# Altium integrated library TI Power Management Power Modules.IntLib: 831 symbols (part 34 of 44)
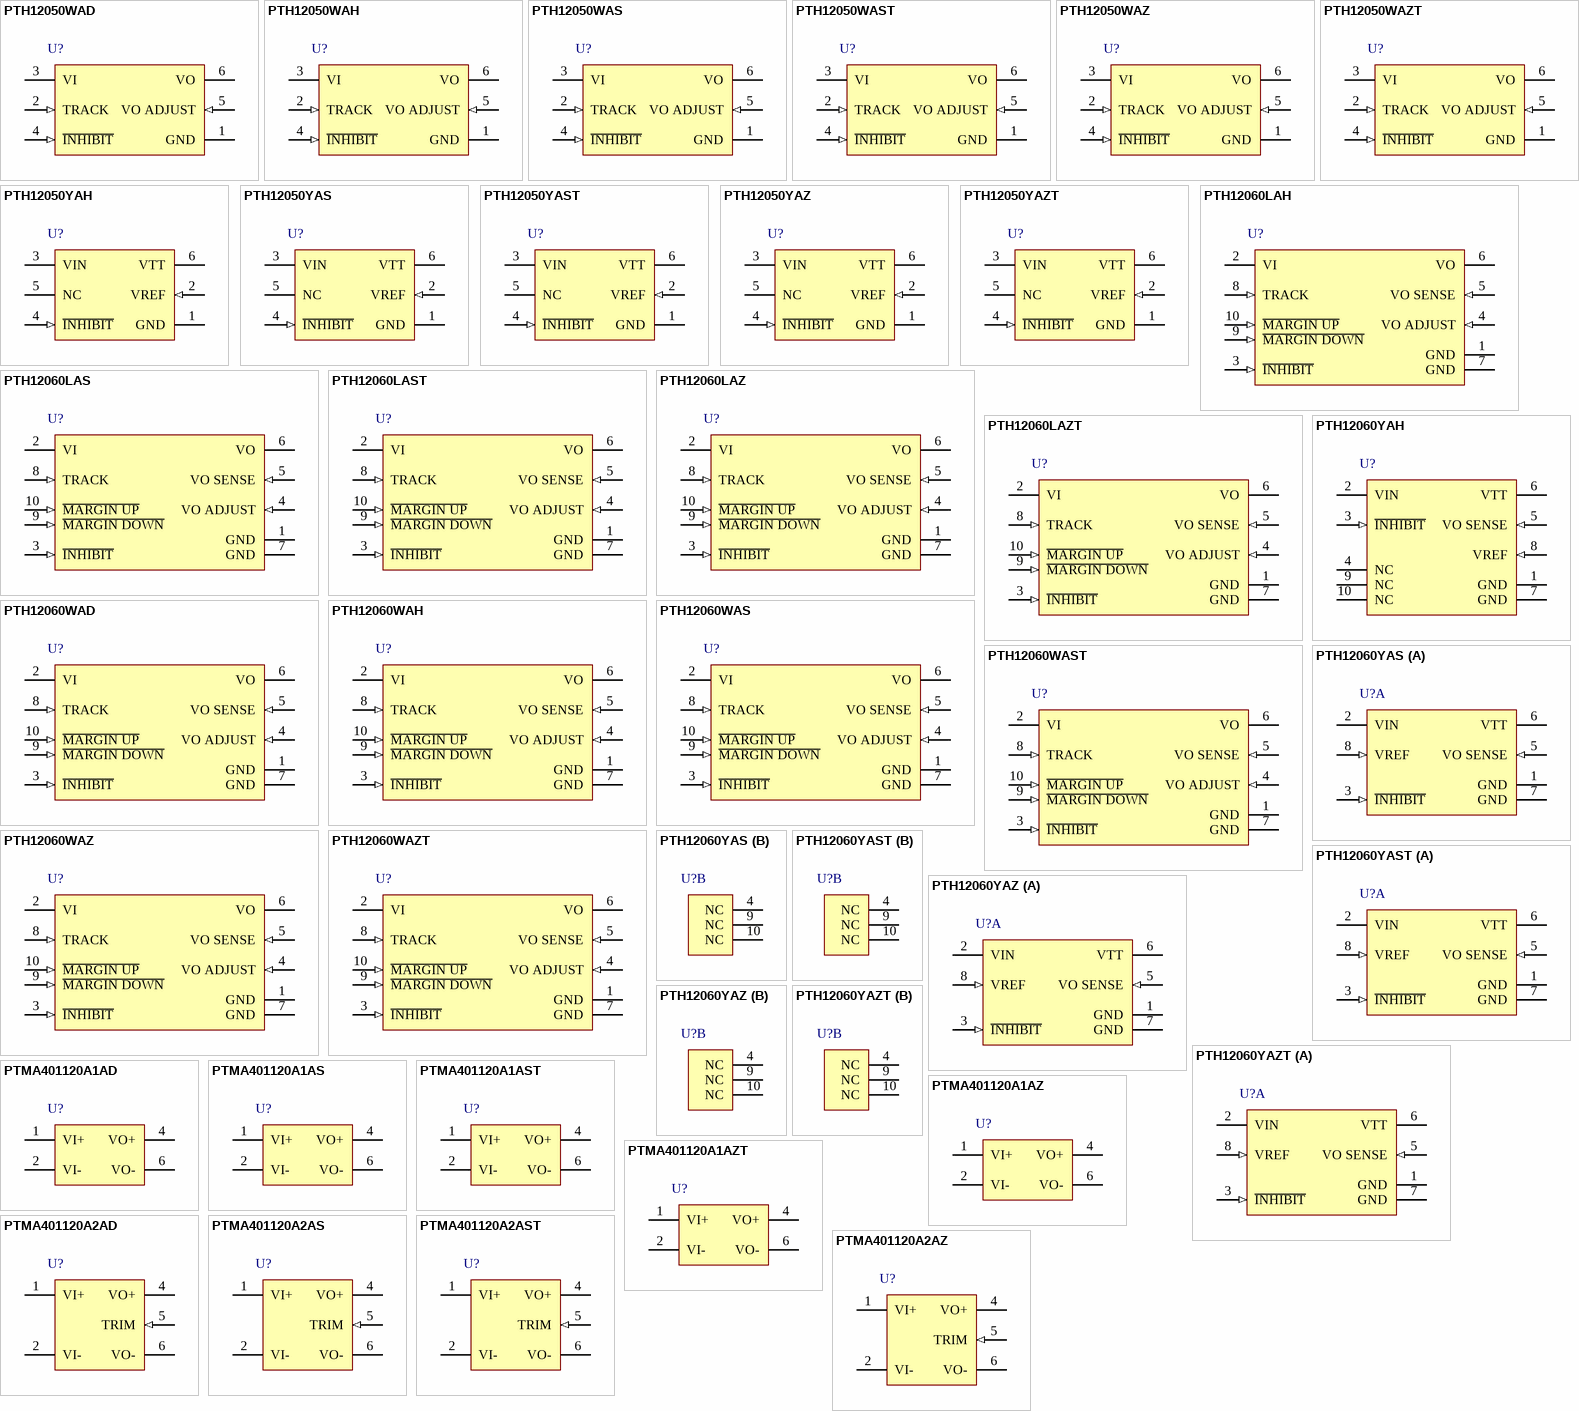
[diagram p56: symbols PTH12050WAD to PTMA401120A2AZ]

## PTH12060WAZT
designator U?
1.2 to 5.5 V, 10 A, 12 V Input Non-Isolated Wide Adjust Module, -40 to 85 degC, 10-pin Module (EUY10), Pb-Free (RoHS); Manufacturer: Texas Instruments; PartNumber: PTH12060WAZT; Iout(Max)(A): 10; Regulated Outputs(#): 1; SubFamily: Non-Isolated POL; Vin(Max)(V): 13.2; Vin(Min)(V): 10.8; VO Adjustable: TRUE; Vout(Max)(V): 5.5; Vout(Min)(V): 1.2; DatasheetVersion: SLTS217H; PackageVersion: 4205249-3/B; PackageReference: EUY10; PackageDescription: 10-Pin Plastic Special Shape, Body 15.75 x 25.27 mm; Supplier 1: Digi-Key; Supplier Part Number 1: PTH12060WAZT-ND; Supplier 2: Newark; Supplier Part Number 2: 37K0759; Supplier 3: Mouser; Supplier Part Number 3: 595-PTH12060WAZT; Eco-Plan: Pb-Free (RoHS); Mounting Technology: Surface Mount; ComponentLink1Description: Manufacturer URL; ComponentLink1URL: http://www.ti.com/; ComponentLink2Description: Datasheet; ComponentLink2URL: http://www.ti.com/general/docs/lit/getliterature.tsp?genericPartNumber=PTH12060W&fileType=pdf; ComponentLink3Description: Package Specification; ComponentLink3URL: http://www.ti.com/lit/ml/mpds145a/mpds145a.pdf; ComponentLink4Description: URL Link1; ComponentLink4URL: Samples URL:http://www.ti.com/product/pth12060w#samples
footprint TI-EUY10_V (Module, 10-Leads, Body 25.27x15.75mm)
pins: 1 GND (power) "This is the common ground connection for the Vin and Vout power connections. It is also the 0 VDC reference for the control inputs.", 2 VI (power) "The positive input voltage power node to the module, which is referenced to common GND.", 3 ~{INHIBIT} (in) "The Inhibit pin is an open-collector/drain negative logic input that is referenced to GND. Applying a lowlevel ground signal to this input disables the module’s output and turns off the output voltage. When the Inhibit (See Datasheet)", 4 VO ADJUST (in) "A 1% resistor must be connected directly between this pin and GND (pin 7) to set the output voltage of the module higher than its lowest value. The temperature stability of the resistor should be 100 ppm/degreesC (or better).(See Datasheet)", 5 VO SENSE (in) "The sense input allows the regulation circuit to compensate for voltage drop between the module and the load. For optimal voltage accuracy Vo Sense should be connected to Vout. It can also be left disconnected.", 6 VO (power) "The regulated positive power output with respect to the GND node.", 7 GND (power) "This is the common ground connection for the Vin and Vout power connections. It is also the 0 VDC reference for the control inputs.", 8 TRACK (in) "This is an analog control input that enables the output voltage to follow an external voltage. This pin becomes active typically 20 ms after the input voltage has been applied, and allows direct control of the output voltage (See Datasheet)", 9 ~{MARGIN DOWN} (in) "When this input is asserted to GND, the output voltage is decreased by 5% from the nominal. The input requires an open-collector (open-drain) interface. It is not TTL compatible. A lower percent change can be accomodated (See Datasheet)", 10 ~{MARGIN UP} (in) "When this input is asserted to GND, the output voltage is increased by 5%. The input requires an open-collector (open-drain) interface. It is not TTL compatible. The percent change can be reduced with a series resistor. For (See Datasheet)"

## PTH12060YAH
designator U?
10 A, 12 V Input Bus Termination Power Module for DDR / QDR Memory, -40 to 85 degC, 10-pin Module (EUW10), Pb-Free (RoHS); Manufacturer: Texas Instruments; PartNumber: PTH12060YAH; Iout(Max)(A): 10; Regulated Outputs(#): 1; SubFamily: Non-Isolated POL; Vin(Max)(V): 13.2; Vin(Min)(V): 10.8; Vout(Max)(V): 1.8; Vout(Min)(V): 0.55; DatasheetVersion: SLTS222A; PackageVersion: 4205248-3/B; PackageReference: EUW10; PackageDescription: 10-Pin Plastic Special Shape, Body 15.75 x 25.27 mm; Supplier 1: Digi-Key; Supplier Part Number 1: 296-20489-ND; Supplier 2: Newark; Supplier Part Number 2: 01J0663; Supplier 3: Mouser; Supplier Part Number 3: 595-PTH12060YAH; Eco-Plan: Pb-Free (RoHS); Mounting Technology: Through Hole; ComponentLink1Description: Manufacturer URL; ComponentLink1URL: http://www.ti.com/; ComponentLink2Description: Datasheet; ComponentLink2URL: http://www.ti.com/general/docs/lit/getliterature.tsp?genericPartNumber=PTH12060Y&fileType=pdf; ComponentLink3Description: Package Specification; ComponentLink3URL: http://www.ti.com/litv/pdf/mpds144a; ComponentLink4Description: URL Link1; ComponentLink4URL: Samples URL:http://www.ti.com/product/pth12060y#samples
footprint TI-EUW10_V (Module, 10-Leads, Body 25.27x15.75mm)
pins: 1 GND (power) "This is the common ground connection for the VIN and VTT power connections. It is also the 0-VDC reference for the control inputs.", 2 VIN (power) "The positive input voltage power node to the module, which is referenced to common GND.", 3 ~{INHIBIT} (in) "The Inhibit pin is an open-collector/drain negative logic input that is referenced to GND. Applying a low-level ground signal to this input turns off the output voltage, VTT. Although the module is inhibited, a voltage, VDDQ (See Datasheet)", 4 NC "No connection", 5 VO SENSE (in) "The sense input allows the regulation circuit to compensate for voltage drop between the module and the load. For optimal voltage accuracy VO SENSE should be connected to VTT.", 6 VTT (power) "This is the regulated power output from the module with respect to the GND node, and the tracking termination supply for the applicantion data and address buses.It is precisely regulated to the voltage applied to the (See Datasheet)", 7 GND (power) "This is the common ground connection for the VIN and VTT power connections. It is also the 0-VDC reference for the control inputs.", 8 VREF (in) "The module senses the voltage at this input to regulate the output voltage, VTT. The voltage at VREF is also the reference voltage for the system bus receiver comparators. It is normally set to precisely half the bus driver (See Datasheet)", 9 NC "No connection", 10 NC "No connection"

## PTH12060YAS
designator U?
10 A, 12 V Input Bus Termination Power Module for DDR / QDR Memory, -40 to 85 degC, 10-pin Module (EUY10); Manufacturer: Texas Instruments; PartNumber: PTH12060YAS; Eco-Plan: TBD; Iout(Max)(A): 10; Regulated Outputs(#): 1; SubFamily: Non-Isolated POL; Vin(Max)(V): 13.2; Vin(Min)(V): 10.8; Vout(Max)(V): 1.8; Vout(Min)(V): 0.55; DatasheetVersion: SLTS222A; PackageVersion: 4205249-3/B; PackageReference: EUY10; PackageDescription: 10-Pin Plastic Special Shape, Body 15.75 x 25.27 mm; Supplier 1: Digi-Key; Supplier Part Number 1: 296-20490-ND; Supplier 2: Newark; Supplier Part Number 2: 01J0664; Supplier 3: Mouser; Supplier Part Number 3: 595-PTH12060YAS; Mounting Technology: Surface Mount; ComponentLink1Description: Manufacturer URL; ComponentLink1URL: http://www.ti.com/; ComponentLink2Description: Datasheet; ComponentLink2URL: http://www.ti.com/general/docs/lit/getliterature.tsp?genericPartNumber=PTH12060Y&fileType=pdf; ComponentLink3Description: Package Specification; ComponentLink3URL: http://www.ti.com/lit/ml/mpds145a/mpds145a.pdf; ComponentLink4Description: URL Link1; ComponentLink4URL: Samples URL:http://www.ti.com/product/pth12060y#samples
footprint TI-EUY10_V (Module, 10-Leads, Body 25.27x15.75mm)
part A pins: 1 GND (power) "This is the common ground connection for the VIN and VTT power connections. It is also the 0-VDC reference for the control inputs.", 2 VIN (power) "The positive input voltage power node to the module, which is referenced to common GND.", 3 ~{INHIBIT} (in) "The Inhibit pin is an open-collector/drain negative logic input that is referenced to GND. Applying a low-level ground signal to this input turns off the output voltage, VTT. Although the module is inhibited, a voltage, VDDQ (See Datasheet)", 5 VO SENSE (in) "The sense input allows the regulation circuit to compensate for voltage drop between the module and the load. For optimal voltage accuracy Vo Sense should be connected to VTT.", 6 VTT (power) "This is the regulated power output from the module with respect to the GND node, and the tracking termination supply for the application data and address buses. It is precisely regulated to the voltage applied to the (See Datasheet)", 7 GND (power) "This is the common ground connection for the VIN and VTT power connections. It is also the 0-VDC reference for the control inputs.", 8 VREF (in) "The module senses the voltage at this input to regulate the output voltage, VTT. The voltage at VREF is also the reference voltage for the system bus receiver comparators. It is normally set to precisely half the bus driver (See Datasheet)"
part B pins: 4 NC "No connect", 9 NC "No connect", 10 NC "No connect"

## PTH12060YAST
designator U?
10 A, 12 V Input Bus Termination Power Module for DDR / QDR Memory, -40 to 85 degC, 10-pin Module (EUY10); Manufacturer: Texas Instruments; PartNumber: PTH12060YAST; Eco-Plan: TBD; Iout(Max)(A): 10; Regulated Outputs(#): 1; SubFamily: Non-Isolated POL; Vin(Max)(V): 13.2; Vin(Min)(V): 10.8; Vout(Max)(V): 1.8; Vout(Min)(V): 0.55; DatasheetVersion: SLTS222A; PackageVersion: 4205249-3/B; PackageReference: EUY10; PackageDescription: 10-Pin Plastic Special Shape, Body 15.75 x 25.27 mm; Supplier 1: Digi-Key; Supplier Part Number 1: PTH12060YAST-ND; Supplier 2: Newark; Supplier Part Number 2: 01J0665; Supplier 3: Mouser; Supplier Part Number 3: 595-PTH12060YAST; Mounting Technology: Surface Mount; ComponentLink1Description: Manufacturer URL; ComponentLink1URL: http://www.ti.com/; ComponentLink2Description: Datasheet; ComponentLink2URL: http://www.ti.com/general/docs/lit/getliterature.tsp?genericPartNumber=PTH12060Y&fileType=pdf; ComponentLink3Description: Package Specification; ComponentLink3URL: http://www.ti.com/lit/ml/mpds145a/mpds145a.pdf; ComponentLink4Description: URL Link1; ComponentLink4URL: Samples URL:http://www.ti.com/product/pth12060y#samples
footprint TI-EUY10_V (Module, 10-Leads, Body 25.27x15.75mm)
part A pins: 1 GND (power) "This is the common ground connection for the VIN and VTT power connections. It is also the 0-VDC reference for the control inputs.", 2 VIN (power) "The positive input voltage power node to the module, which is referenced to common GND.", 3 ~{INHIBIT} (in) "The Inhibit pin is an open-collector/drain negative logic input that is referenced to GND. Applying a low-level ground signal to this input turns off the output voltage, VTT. Although the module is inhibited, a voltage, VDDQ (See Datasheet)", 5 VO SENSE (in) "The sense input allows the regulation circuit to compensate for voltage drop between the module and the load. For optimal voltage accuracy Vo Sense should be connected to VTT.", 6 VTT (power) "This is the regulated power output from the module with respect to the GND node, and the tracking termination supply for the application data and address buses. It is precisely regulated to the voltage applied to the (See Datasheet)", 7 GND (power) "This is the common ground connection for the VIN and VTT power connections. It is also the 0-VDC reference for the control inputs.", 8 VREF (in) "The module senses the voltage at this input to regulate the output voltage, VTT. The voltage at VREF is also the reference voltage for the system bus receiver comparators. It is normally set to precisely half the bus driver (See Datasheet)"
part B pins: 4 NC "No connect", 9 NC "No connect", 10 NC "No connect"

## PTH12060YAZ
designator U?
10 A, 12 V Input Bus Termination Power Module for DDR / QDR Memory, -40 to 85 degC, 10-pin Module (EUY10), Pb-Free (RoHS); Manufacturer: Texas Instruments; PartNumber: PTH12060YAZ; Iout(Max)(A): 10; Regulated Outputs(#): 1; SubFamily: Non-Isolated POL; Vin(Max)(V): 13.2; Vin(Min)(V): 10.8; Vout(Max)(V): 1.8; Vout(Min)(V): 0.55; DatasheetVersion: SLTS222A; PackageVersion: 4205249-3/B; PackageReference: EUY10; PackageDescription: 10-Pin Plastic Special Shape, Body 15.75 x 25.27 mm; Supplier 1: Digi-Key; Supplier Part Number 1: 296-20491-ND; Supplier 2: Newark; Supplier Part Number 2: 37K0760; Supplier 3: Mouser; Supplier Part Number 3: 595-PTH12060YAZ; Eco-Plan: Pb-Free (RoHS); Mounting Technology: Surface Mount; ComponentLink1Description: Manufacturer URL; ComponentLink1URL: http://www.ti.com/; ComponentLink2Description: Datasheet; ComponentLink2URL: http://www.ti.com/general/docs/lit/getliterature.tsp?genericPartNumber=PTH12060Y&fileType=pdf; ComponentLink3Description: Package Specification; ComponentLink3URL: http://www.ti.com/lit/ml/mpds145a/mpds145a.pdf; ComponentLink4Description: URL Link1; ComponentLink4URL: Samples URL:http://www.ti.com/product/pth12060y#samples
footprint TI-EUY10_V (Module, 10-Leads, Body 25.27x15.75mm)
part A pins: 1 GND (power) "This is the common ground connection for the VIN and VTT power connections. It is also the 0-VDC reference for the control inputs.", 2 VIN (power) "The positive input voltage power node to the module, which is referenced to common GND.", 3 ~{INHIBIT} (in) "The Inhibit pin is an open-collector/drain negative logic input that is referenced to GND. Applying a low-level ground signal to this input turns off the output voltage, VTT. Although the module is inhibited, a voltage, VDDQ (See Datasheet)", 5 VO SENSE (in) "The sense input allows the regulation circuit to compensate for voltage drop between the module and the load. For optimal voltage accuracy Vo Sense should be connected to VTT.", 6 VTT (power) "This is the regulated power output from the module with respect to the GND node, and the tracking termination supply for the application data and address buses. It is precisely regulated to the voltage applied to the (See Datasheet)", 7 GND (power) "This is the common ground connection for the VIN and VTT power connections. It is also the 0-VDC reference for the control inputs.", 8 VREF (in) "The module senses the voltage at this input to regulate the output voltage, VTT. The voltage at VREF is also the reference voltage for the system bus receiver comparators. It is normally set to precisely half the bus driver (See Datasheet)"
part B pins: 4 NC "No connect", 9 NC "No connect", 10 NC "No connect"

## PTH12060YAZT
designator U?
10 A, 12 V Input Bus Termination Power Module for DDR / QDR Memory, -40 to 85 degC, 10-pin Module (EUY10), Pb-Free (RoHS); Manufacturer: Texas Instruments; PartNumber: PTH12060YAZT; Iout(Max)(A): 10; Regulated Outputs(#): 1; SubFamily: Non-Isolated POL; Vin(Max)(V): 13.2; Vin(Min)(V): 10.8; Vout(Max)(V): 1.8; Vout(Min)(V): 0.55; DatasheetVersion: SLTS222A; PackageVersion: 4205249-3/B; PackageReference: EUY10; PackageDescription: 10-Pin Plastic Special Shape, Body 15.75 x 25.27 mm; Supplier 1: Digi-Key; Supplier Part Number 1: PTH12060YAZT-ND; Supplier 2: Newark; Supplier Part Number 2: 37K0761; Supplier 3: Mouser; Supplier Part Number 3: 595-PTH12060YAZT; Eco-Plan: Pb-Free (RoHS); Mounting Technology: Surface Mount; ComponentLink1Description: Manufacturer URL; ComponentLink1URL: http://www.ti.com/; ComponentLink2Description: Datasheet; ComponentLink2URL: http://www.ti.com/general/docs/lit/getliterature.tsp?genericPartNumber=PTH12060Y&fileType=pdf; ComponentLink3Description: Package Specification; ComponentLink3URL: http://www.ti.com/lit/ml/mpds145a/mpds145a.pdf; ComponentLink4Description: URL Link1; ComponentLink4URL: Samples URL:http://www.ti.com/product/pth12060y#samples
footprint TI-EUY10_V (Module, 10-Leads, Body 25.27x15.75mm)
part A pins: 1 GND (power) "This is the common ground connection for the VIN and VTT power connections. It is also the 0-VDC reference for the control inputs.", 2 VIN (power) "The positive input voltage power node to the module, which is referenced to common GND.", 3 ~{INHIBIT} (in) "The Inhibit pin is an open-collector/drain negative logic input that is referenced to GND. Applying a low-level ground signal to this input turns off the output voltage, VTT. Although the module is inhibited, a voltage, VDDQ (See Datasheet)", 5 VO SENSE (in) "The sense input allows the regulation circuit to compensate for voltage drop between the module and the load. For optimal voltage accuracy Vo Sense should be connected to VTT.", 6 VTT (power) "This is the regulated power output from the module with respect to the GND node, and the tracking termination supply for the application data and address buses. It is precisely regulated to the voltage applied to the (See Datasheet)", 7 GND (power) "This is the common ground connection for the VIN and VTT power connections. It is also the 0-VDC reference for the control inputs.", 8 VREF (in) "The module senses the voltage at this input to regulate the output voltage, VTT. The voltage at VREF is also the reference voltage for the system bus receiver comparators. It is normally set to precisely half the bus driver (See Datasheet)"
part B pins: 4 NC "No connect", 9 NC "No connect", 10 NC "No connect"

## PTMA401120A1AD
designator U?
10 W, 36 to 75 V Input, 1500 V Isolation, DC-DC Converter, -40 to 85 degC, 4-pin Module (EEP4), Pb-Free (RoHS); Manufacturer: Texas Instruments; PartNumber: PTMA401120A1AD; Iout(Max)(A): 1; SubFamily: 48V Standard Pinout Brick and 36V to 75V Input; Vin(Max)(V): 75; Vin(Min)(V): 36; Vout(Max)(V): 13.2; Vout(Min)(V): 10.8; DatasheetVersion: SLTS259B; PackageVersion: 4207367-2/C; PackageReference: EEP4; PackageDescription: 4-Pin Plastic Special Shape, Body 24.38 x 27.94 mm; Supplier 1: Digi-Key; Supplier Part Number 1: 296-21462-ND; Supplier 2: Newark; Supplier Part Number 2: 99K4124; Supplier 3: Mouser; Supplier Part Number 3: 595-PTMA401120A1AD; Eco-Plan: Pb-Free (RoHS); Regulated Outputs(#): 1; Mounting Technology: Through Hole; ComponentLink1Description: Manufacturer URL; ComponentLink1URL: http://www.ti.com/; ComponentLink2Description: Datasheet; ComponentLink2URL: http://www.ti.com/general/docs/lit/getliterature.tsp?genericPartNumber=PTMA401120&fileType=pdf; ComponentLink3Description: Package Specification; ComponentLink3URL: http://www.ti.com/litv/pdf/mpds248; ComponentLink4Description: URL Link1; ComponentLink4URL: Samples URL:http://www.ti.com/product/ptma401120#samples
footprint TI-EEP4_V (Module, 4-Leads, Body 27.94x24.38mm)
pins: 1 VI+ (power) "The positive input for the module with respect to VI-. When powering the module from a negative input voltage, this input is connected to the input source ground.", 2 VI- (power) "The negative input supply for the module, and the 0-V reference for the Enable/Sync inputs. When powering the module from a positive source, this input is connected to the input source return.", 4 VO+ (power) "This is the positive power output with respect to VO-. It is dc isolated from the input power pins.", 6 VO- (power) "This is the output power return for the VO+ bus. This terminal should be connected to the common of the load circuit."

## PTMA401120A1AS
designator U?
10 W, 36 to 75 V Input, 1500 V Isolation, DC-DC Converter, -40 to 85 degC, 4-pin Module (EET4); Manufacturer: Texas Instruments; PartNumber: PTMA401120A1AS; Eco-Plan: TBD; Iout(Max)(A): 1; SubFamily: 48V Standard Pinout Brick and 36V to 75V Input; Vin(Max)(V): 75; Vin(Min)(V): 36; Vout(Max)(V): 13.2; Vout(Min)(V): 10.8; DatasheetVersion: SLTS259B; PackageVersion: 4207368-2/C; PackageReference: EET4; PackageDescription: 4-Pin Plastic Special Shape, Body 24.38 x 27.94 mm; Supplier 1: Digi-Key; Supplier Part Number 1: PTMA401120A1AS-ND; Supplier 2: Mouser; Supplier Part Number 2: 595-PTMA401120A1AS; Regulated Outputs(#): 1; Mounting Technology: Surface Mount; ComponentLink1Description: Manufacturer URL; ComponentLink1URL: http://www.ti.com/; ComponentLink2Description: Datasheet; ComponentLink2URL: http://www.ti.com/general/docs/lit/getliterature.tsp?genericPartNumber=PTMA401120&fileType=pdf; ComponentLink3Description: Package Specification; ComponentLink3URL: http://www.ti.com/litv/pdf/mpds251; ComponentLink4Description: URL Link1; ComponentLink4URL: Samples URL:http://www.ti.com/product/ptma401120#samples
footprint TI-EET4_V (Moudle, 4-Leads, Body 27.94x24.38mm)
pins: 1 VI+ (power) "The positive input for the module with respect to VI-. When powering the module from a negative input voltage, this input is connected to the input source ground.", 2 VI- (power) "The negative input supply for the module, and the 0-V reference for the Enable/Sync inputs. When powering the module from a positive source, this input is connected to the input source return.", 4 VO+ (power) "This is the positive power output with respect to VO-. It is dc isolated from the input power pins.", 6 VO- (power) "This is the output power return for the VO+ bus. This terminal should be connected to the common of the load circuit."

## PTMA401120A1AST
designator U?
10 W, 36 to 75 V Input, 1500 V Isolation, DC-DC Converter, -40 to 85 degC, 4-pin Module (EET4); Manufacturer: Texas Instruments; PartNumber: PTMA401120A1AST; Eco-Plan: TBD; Iout(Max)(A): 1; SubFamily: 48V Standard Pinout Brick and 36V to 75V Input; Vin(Max)(V): 75; Vin(Min)(V): 36; Vout(Max)(V): 13.2; Vout(Min)(V): 10.8; DatasheetVersion: SLTS259B; PackageVersion: 4207368-2/C; PackageReference: EET4; PackageDescription: 4-Pin Plastic Special Shape, Body 24.38 x 27.94 mm; Supplier 1: Digi-Key; Supplier Part Number 1: PTMA401120A1AST-ND; Supplier 2: Mouser; Supplier Part Number 2: 595-PTMA401120A1AST; Regulated Outputs(#): 1; Mounting Technology: Surface Mount; ComponentLink1Description: Manufacturer URL; ComponentLink1URL: http://www.ti.com/; ComponentLink2Description: Datasheet; ComponentLink2URL: http://www.ti.com/general/docs/lit/getliterature.tsp?genericPartNumber=PTMA401120&fileType=pdf; ComponentLink3Description: Package Specification; ComponentLink3URL: http://www.ti.com/litv/pdf/mpds251; ComponentLink4Description: URL Link1; ComponentLink4URL: Samples URL:http://www.ti.com/product/ptma401120#samples
footprint TI-EET4_V (Moudle, 4-Leads, Body 27.94x24.38mm)
pins: 1 VI+ (power) "The positive input for the module with respect to VI-. When powering the module from a negative input voltage, this input is connected to the input source ground.", 2 VI- (power) "The negative input supply for the module, and the 0-V reference for the Enable/Sync inputs. When powering the module from a positive source, this input is connected to the input source return.", 4 VO+ (power) "This is the positive power output with respect to VO-. It is dc isolated from the input power pins.", 6 VO- (power) "This is the output power return for the VO+ bus. This terminal should be connected to the common of the load circuit."

## PTMA401120A1AZ
designator U?
10 W, 36 to 75 V Input, 1500 V Isolation, DC-DC Converter, -40 to 85 degC, 4-pin Module (BET4), Pb-Free (RoHS); Manufacturer: Texas Instruments; PartNumber: PTMA401120A1AZ; Iout(Max)(A): 1; SubFamily: 48V Standard Pinout Brick and 36V to 75V Input; Vin(Max)(V): 75; Vin(Min)(V): 36; Vout(Max)(V): 13.2; Vout(Min)(V): 10.8; DatasheetVersion: SLTS259B; PackageVersion: 4207711-2/B; PackageReference: BET4; PackageDescription: 4-Pin Plastic Special Shape, Body 24.38 x 27.94 mm; Supplier 1: Digi-Key; Supplier Part Number 1: 296-21463-ND; Supplier 2: Mouser; Supplier Part Number 2: 595-PTMA401120A1AZ; Eco-Plan: Pb-Free (RoHS); Regulated Outputs(#): 1; Mounting Technology: Surface Mount; ComponentLink1Description: Manufacturer URL; ComponentLink1URL: http://www.ti.com/; ComponentLink2Description: Datasheet; ComponentLink2URL: http://www.ti.com/general/docs/lit/getliterature.tsp?genericPartNumber=PTMA401120&fileType=pdf; ComponentLink3Description: Package Specification; ComponentLink3URL: http://www.ti.com/litv/pdf/mpds254a; ComponentLink4Description: URL Link1; ComponentLink4URL: Samples URL:http://www.ti.com/product/ptma401120#samples
footprint TI-BET4_V (Module, 4-Leads, Body 27.94x24.38mm)
pins: 1 VI+ (power) "The positive input for the module with respect to VI-. When powering the module from a negative input voltage, this input is connected to the input source ground.", 2 VI- (power) "The negative input supply for the module, and the 0-V reference for the Enable/Sync inputs. When powering the module from a positive source, this input is connected to the input source return.", 4 VO+ (power) "This is the positive power output with respect to VO-. It is dc isolated from the input power pins.", 6 VO- (power) "This is the output power return for the VO+ bus. This terminal should be connected to the common of the load circuit."

## PTMA401120A1AZT
designator U?
10 W, 36 to 75 V Input, 1500 V Isolation, DC-DC Converter, -40 to 85 degC, 4-pin Module (BET4); Manufacturer: Texas Instruments; PartNumber: PTMA401120A1AZT; Eco-Plan: TBD; Iout(Max)(A): 1; SubFamily: 48V Standard Pinout Brick and 36V to 75V Input; Vin(Max)(V): 75; Vin(Min)(V): 36; Vout(Max)(V): 13.2; Vout(Min)(V): 10.8; DatasheetVersion: SLTS259B; PackageVersion: 4207711-2/B; PackageReference: BET4; PackageDescription: 4-Pin Plastic Special Shape, Body 24.38 x 27.94 mm; Supplier 1: Digi-Key; Supplier Part Number 1: PTMA401120A1AZT-ND; Supplier 2: Mouser; Supplier Part Number 2: 595-PTMA401120A1AZT; Regulated Outputs(#): 1; Mounting Technology: Surface Mount; ComponentLink1Description: Manufacturer URL; ComponentLink1URL: http://www.ti.com/; ComponentLink2Description: Datasheet; ComponentLink2URL: http://www.ti.com/general/docs/lit/getliterature.tsp?genericPartNumber=PTMA401120&fileType=pdf; ComponentLink3Description: Package Specification; ComponentLink3URL: http://www.ti.com/litv/pdf/mpds254a; ComponentLink4Description: URL Link1; ComponentLink4URL: Samples URL:http://www.ti.com/product/ptma401120#samples
footprint TI-BET4_V (Module, 4-Leads, Body 27.94x24.38mm)
pins: 1 VI+ (power) "The positive input for the module with respect to VI-. When powering the module from a negative input voltage, this input is connected to the input source ground.", 2 VI- (power) "The negative input supply for the module, and the 0-V reference for the Enable/Sync inputs. When powering the module from a positive source, this input is connected to the input source return.", 4 VO+ (power) "This is the positive power output with respect to VO-. It is dc isolated from the input power pins.", 6 VO- (power) "This is the output power return for the VO+ bus. This terminal should be connected to the common of the load circuit."

## PTMA401120A2AD
designator U?
10 W, 36 to 75 V Input, 1500 V Isolation, DC-DC Converter, -40 to 85 degC, 5-pin Module (EEV5), Pb-Free (RoHS); Manufacturer: Texas Instruments; PartNumber: PTMA401120A2AD; Iout(Max)(A): 1; SubFamily: 48V Standard Pinout Brick and 36V to 75V Input; Vin(Max)(V): 75; Vin(Min)(V): 36; Vout(Max)(V): 13.2; Vout(Min)(V): 10.8; DatasheetVersion: SLTS259B; PackageVersion: 4207709/A; PackageReference: EEV5; PackageDescription: 5-Pin Plastic Special Shape, Body 24.38 x 27.94 mm; Supplier 1: Digi-Key; Supplier Part Number 1: 296-21464-ND; Supplier 2: Newark; Supplier Part Number 2: 99K4129; Supplier 3: Mouser; Supplier Part Number 3: 595-PTMA401120A2AD; Eco-Plan: Pb-Free (RoHS); Regulated Outputs(#): 1; Mounting Technology: Through Hole; ComponentLink1Description: Manufacturer URL; ComponentLink1URL: http://www.ti.com/; ComponentLink2Description: Datasheet; ComponentLink2URL: http://www.ti.com/general/docs/lit/getliterature.tsp?genericPartNumber=PTMA401120&fileType=pdf; ComponentLink3Description: Package Specification; ComponentLink3URL: http://www.ti.com/litv/pdf/mpds252; ComponentLink4Description: URL Link1; ComponentLink4URL: Samples URL:http://www.ti.com/product/ptma401120#samples
footprint TI-EEV5_V (5-Leads Double Sided Module, Body 27.94x24.38mm)
pins: 1 VI+ (power) "The positive input for the module with respect to VI-. When powering the module from a negative input voltage, this input is connected to the input source ground.", 2 VI- (power) "The negative input supply for the module, and the 0-V reference for the Enable/Sync inputs. When powering the module from a positive source, this input is connected to the input source return.", 4 VO+ (power) "This is the positive power output with respect to VO-. It is dc isolated from the input power pins.", 5 TRIM (in) "This pin allows the output voltage set point of the module to be increased or decreased up to +/- 10 %. Connecting a resistor between this terminal and VO+ decreases the output voltage set point. Connecting a resistor (See Datasheet)", 6 VO- (power) "This is the output power return for the VO+ bus. This terminal should be connected to the common of the load circuit."

## PTMA401120A2AS
designator U?
10 W, 36 to 75 V Input, 1500 V Isolation, DC-DC Converter, -40 to 85 degC, 5-pin Module (EEW5); Manufacturer: Texas Instruments; PartNumber: PTMA401120A2AS; Eco-Plan: TBD; Iout(Max)(A): 1; SubFamily: 48V Standard Pinout Brick and 36V to 75V Input; Vin(Max)(V): 75; Vin(Min)(V): 36; Vout(Max)(V): 13.2; Vout(Min)(V): 10.8; DatasheetVersion: SLTS259B; PackageVersion: 4207710/A; PackageReference: EEW5; PackageDescription: 5-Pin Plastic Special Shape, Body 24.38 x 27.94 mm; Supplier 1: Digi-Key; Supplier Part Number 1: PTMA401120A2AS-ND; Supplier 2: Mouser; Supplier Part Number 2: 595-PTMA401120A2AS; Regulated Outputs(#): 1; Mounting Technology: Surface Mount; ComponentLink1Description: Manufacturer URL; ComponentLink1URL: http://www.ti.com/; ComponentLink2Description: Datasheet; ComponentLink2URL: http://www.ti.com/general/docs/lit/getliterature.tsp?genericPartNumber=PTMA401120&fileType=pdf; ComponentLink3Description: Package Specification; ComponentLink3URL: http://www.ti.com/litv/pdf/mpds253; ComponentLink4Description: URL Link1; ComponentLink4URL: Samples URL:http://www.ti.com/product/ptma401120#samples
footprint TI-EEW5_V (Module, 5-Leads, Body 27.94x24.38mm)
pins: 1 VI+ (power) "The positive input for the module with respect to VI-. When powering the module from a negative input voltage, this input is connected to the input source ground.", 2 VI- (power) "The negative input supply for the module, and the 0-V reference for the Enable/Sync inputs. When powering the module from a positive source, this input is connected to the input source return.", 4 VO+ (power) "This is the positive power output with respect to VO-. It is dc isolated from the input power pins.", 5 TRIM (in) "This pin allows the output voltage set point of the module to be increased or decreased up to +/- 10 %. Connecting a resistor between this terminal and VO+ decreases the output voltage set point. Connecting a resistor (See Datasheet)", 6 VO- (power) "This is the output power return for the VO+ bus. This terminal should be connected to the common of the load circuit."

## PTMA401120A2AST
designator U?
10 W, 36 to 75 V Input, 1500 V Isolation, DC-DC Converter, -40 to 85 degC, 5-pin Module (EEW5); Manufacturer: Texas Instruments; PartNumber: PTMA401120A2AST; Eco-Plan: TBD; Iout(Max)(A): 1; SubFamily: 48V Standard Pinout Brick and 36V to 75V Input; Vin(Max)(V): 75; Vin(Min)(V): 36; Vout(Max)(V): 13.2; Vout(Min)(V): 10.8; DatasheetVersion: SLTS259B; PackageVersion: 4207710/A; PackageReference: EEW5; PackageDescription: 5-Pin Plastic Special Shape, Body 24.38 x 27.94 mm; Supplier 1: Digi-Key; Supplier Part Number 1: PTMA401120A2AST-ND; Supplier 2: Mouser; Supplier Part Number 2: 595-PTMA401120A2AST; Regulated Outputs(#): 1; Mounting Technology: Surface Mount; ComponentLink1Description: Manufacturer URL; ComponentLink1URL: http://www.ti.com/; ComponentLink2Description: Datasheet; ComponentLink2URL: http://www.ti.com/general/docs/lit/getliterature.tsp?genericPartNumber=PTMA401120&fileType=pdf; ComponentLink3Description: Package Specification; ComponentLink3URL: http://www.ti.com/litv/pdf/mpds253; ComponentLink4Description: URL Link1; ComponentLink4URL: Samples URL:http://www.ti.com/product/ptma401120#samples
footprint TI-EEW5_V (Module, 5-Leads, Body 27.94x24.38mm)
pins: 1 VI+ (power) "The positive input for the module with respect to VI-. When powering the module from a negative input voltage, this input is connected to the input source ground.", 2 VI- (power) "The negative input supply for the module, and the 0-V reference for the Enable/Sync inputs. When powering the module from a positive source, this input is connected to the input source return.", 4 VO+ (power) "This is the positive power output with respect to VO-. It is dc isolated from the input power pins.", 5 TRIM (in) "This pin allows the output voltage set point of the module to be increased or decreased up to +/- 10 %. Connecting a resistor between this terminal and VO+ decreases the output voltage set point. Connecting a resistor (See Datasheet)", 6 VO- (power) "This is the output power return for the VO+ bus. This terminal should be connected to the common of the load circuit."

## PTMA401120A2AZ
designator U?
10 W, 36 to 75 V Input, 1500 V Isolation, DC-DC Converter, -40 to 85 degC, 5-pin Module (BEW5), Pb-Free (RoHS); Manufacturer: Texas Instruments; PartNumber: PTMA401120A2AZ; Iout(Max)(A): 1; SubFamily: 48V Standard Pinout Brick and 36V to 75V Input; Vin(Max)(V): 75; Vin(Min)(V): 36; Vout(Max)(V): 13.2; Vout(Min)(V): 10.8; DatasheetVersion: SLTS259B; PackageVersion: 4207712/B; PackageReference: BEW5; PackageDescription: 5-Pin Plastic Special Shape, Body 24.38 x 27.94 mm; Supplier 1: Digi-Key; Supplier Part Number 1: 296-21465-ND; Supplier 2: Newark; Supplier Part Number 2: 99K4132; Supplier 3: Mouser; Supplier Part Number 3: 595-PTMA401120A2AZ; Eco-Plan: Pb-Free (RoHS); Regulated Outputs(#): 1; Mounting Technology: Surface Mount; ComponentLink1Description: Manufacturer URL; ComponentLink1URL: http://www.ti.com/; ComponentLink2Description: Datasheet; ComponentLink2URL: http://www.ti.com/general/docs/lit/getliterature.tsp?genericPartNumber=PTMA401120&fileType=pdf; ComponentLink3Description: Package Specification; ComponentLink3URL: http://www.ti.com/litv/pdf/mpds257a; ComponentLink4Description: URL Link1; ComponentLink4URL: Samples URL:http://www.ti.com/product/ptma401120#samples
footprint TI-BEW5_V (Module, 5-Leads, Body 27.94x24.38mm)
pins: 1 VI+ (power) "The positive input for the module with respect to VI-. When powering the module from a negative input voltage, this input is connected to the input source ground.", 2 VI- (power) "The negative input supply for the module, and the 0-V reference for the Enable/Sync inputs. When powering the module from a positive source, this input is connected to the input source return.", 4 VO+ (power) "This is the positive power output with respect to VO-. It is dc isolated from the input power pins.", 5 TRIM (in) "This pin allows the output voltage set point of the module to be increased or decreased up to +/- 10 %. Connecting a resistor between this terminal and VO+ decreases the output voltage set point. Connecting a resistor (See Datasheet)", 6 VO- (power) "This is the output power return for the VO+ bus. This terminal should be connected to the common of the load circuit."

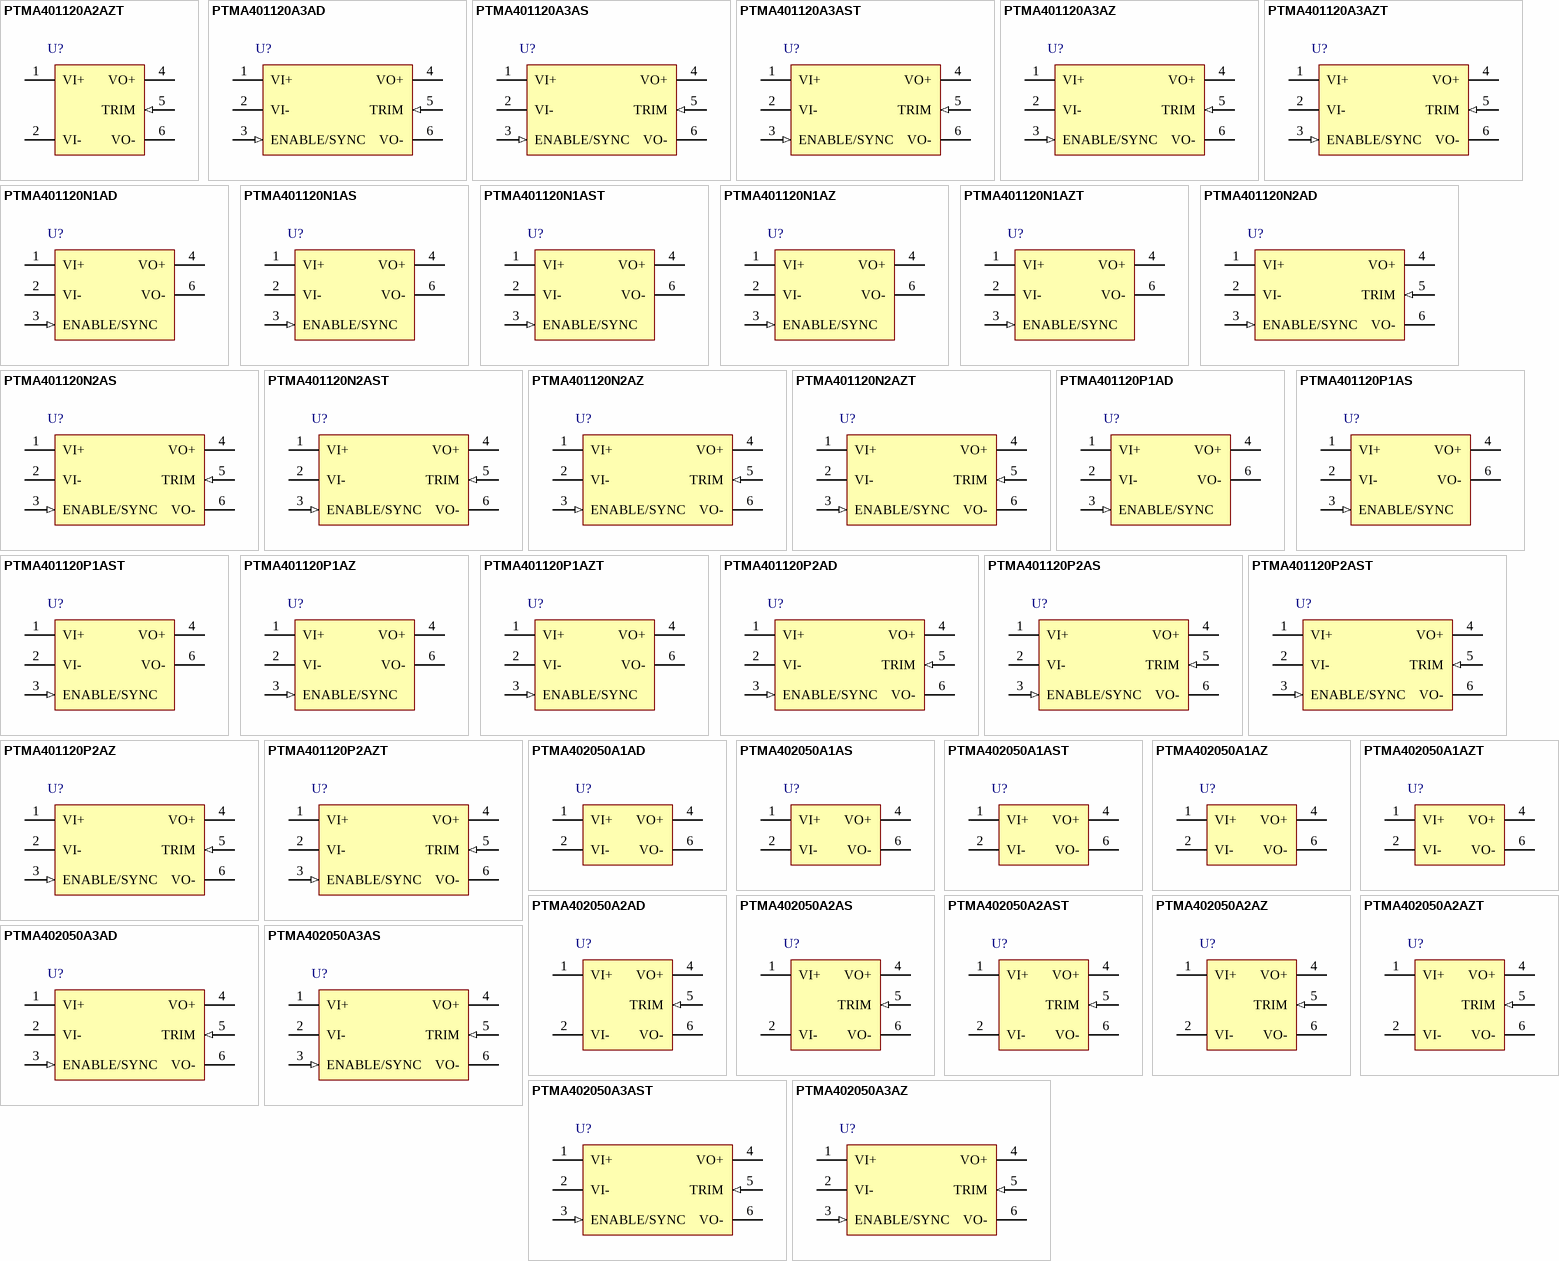
[diagram p19: symbols PTMA401120A2AZT to PTMA402050A3AZ]

## PTMA401120A2AZT
designator U?
10 W, 36 to 75 V Input, 1500 V Isolation, DC-DC Converter, -40 to 85 degC, 5-pin Module (BEW5); Manufacturer: Texas Instruments; PartNumber: PTMA401120A2AZT; Eco-Plan: TBD; Iout(Max)(A): 1; SubFamily: 48V Standard Pinout Brick and 36V to 75V Input; Vin(Max)(V): 75; Vin(Min)(V): 36; Vout(Max)(V): 13.2; Vout(Min)(V): 10.8; DatasheetVersion: SLTS259B; PackageVersion: 4207712/B; PackageReference: BEW5; PackageDescription: 5-Pin Plastic Special Shape, Body 24.38 x 27.94 mm; Supplier 1: Digi-Key; Supplier Part Number 1: PTMA401120A2AZT-ND; Supplier 2: Mouser; Supplier Part Number 2: 595-PTMA401120A2AZT; Regulated Outputs(#): 1; Mounting Technology: Surface Mount; ComponentLink1Description: Manufacturer URL; ComponentLink1URL: http://www.ti.com/; ComponentLink2Description: Datasheet; ComponentLink2URL: http://www.ti.com/general/docs/lit/getliterature.tsp?genericPartNumber=PTMA401120&fileType=pdf; ComponentLink3Description: Package Specification; ComponentLink3URL: http://www.ti.com/litv/pdf/mpds257a; ComponentLink4Description: URL Link1; ComponentLink4URL: Samples URL:http://www.ti.com/product/ptma401120#samples
footprint TI-BEW5_V (Module, 5-Leads, Body 27.94x24.38mm)
pins: 1 VI+ (power) "The positive input for the module with respect to VI-. When powering the module from a negative input voltage, this input is connected to the input source ground.", 2 VI- (power) "The negative input supply for the module, and the 0-V reference for the Enable/Sync inputs. When powering the module from a positive source, this input is connected to the input source return.", 4 VO+ (power) "This is the positive power output with respect to VO-. It is dc isolated from the input power pins.", 5 TRIM (in) "This pin allows the output voltage set point of the module to be increased or decreased up to +/- 10 %. Connecting a resistor between this terminal and VO+ decreases the output voltage set point. Connecting a resistor (See Datasheet)", 6 VO- (power) "This is the output power return for the VO+ bus. This terminal should be connected to the common of the load circuit."

## PTMA401120A3AD
designator U?
10 W, 36 to 75 V Input, 1500 V Isolation, DC-DC Converter, -40 to 85 degC, 6-pin Module (EEP6), Pb-Free (RoHS); Manufacturer: Texas Instruments; PartNumber: PTMA401120A3AD; Iout(Max)(A): 1; SubFamily: 48V Standard Pinout Brick and 36V to 75V Input; Vin(Max)(V): 75; Vin(Min)(V): 36; Vout(Max)(V): 13.2; Vout(Min)(V): 10.8; DatasheetVersion: SLTS259B; PackageVersion: 4207367-4/C; PackageReference: EEP6; PackageDescription: 6-Pin Plastic Special Shape, Body 24.38 x 27.94 mm; Supplier 1: Digi-Key; Supplier Part Number 1: 296-21466-ND; Supplier 2: Newark; Supplier Part Number 2: 99K4134; Supplier 3: Mouser; Supplier Part Number 3: 595-PTMA401120A3AD; Eco-Plan: Pb-Free (RoHS); Regulated Outputs(#): 1; Mounting Technology: Through Hole; ComponentLink1Description: Manufacturer URL; ComponentLink1URL: http://www.ti.com/; ComponentLink2Description: Datasheet; ComponentLink2URL: http://www.ti.com/general/docs/lit/getliterature.tsp?genericPartNumber=PTMA401120&fileType=pdf; ComponentLink3Description: Package Specification; ComponentLink3URL: http://www.ti.com/litv/pdf/mpds232b; ComponentLink4Description: URL Link1; ComponentLink4URL: Samples URL:http://www.ti.com/product/ptma401120#samples
footprint TI-EEP6_V (Module, 6-Leads, Body 27.94x24.38mm)
pins: 1 VI+ (power) "The positive input for the module with respect to VI- When powering the module from a negative input voltage, this input is connected to the input source ground.", 2 VI- (power) "The negative input supply for the module, and the 0-V reference for the Enable/Sync inputs. When powering the module from a positive source, this input is connected to the input source return.", 3 ENABLE/SYNC (in), 4 VO+ (power) "This is the positive power output with respect to VO-. It is dc isolated from the input power pins.", 5 TRIM (in) "This pin allows the output voltage set point of the module to be increased or decreased up to +/- 10 %. Connecting a resistor between this terminal and VO+ decreases the output voltage set point. Connecting a resistor (See Datasheet)", 6 VO- (power) "This is the output power return for the VO+ bus. This terminal should be connected to the common of the load circuit."

## PTMA401120A3AS
designator U?
10 W, 36 to 75 V Input, 1500 V Isolation, DC-DC Converter, -40 to 85 degC, 6-pin Module (EET6); Manufacturer: Texas Instruments; PartNumber: PTMA401120A3AS; Eco-Plan: TBD; Iout(Max)(A): 1; SubFamily: 48V Standard Pinout Brick and 36V to 75V Input; Vin(Max)(V): 75; Vin(Min)(V): 36; Vout(Max)(V): 13.2; Vout(Min)(V): 10.8; DatasheetVersion: SLTS259B; PackageVersion: 4207368-4/C; PackageReference: EET6; PackageDescription: 6-Pin Plastic Special Shape, Body 24.38 x 27.94 mm; Supplier 1: Digi-Key; Supplier Part Number 1: PTMA401120A3AS-ND; Supplier 2: Mouser; Supplier Part Number 2: 595-PTMA401120A3AS; Regulated Outputs(#): 1; Mounting Technology: Surface Mount; ComponentLink1Description: Manufacturer URL; ComponentLink1URL: http://www.ti.com/; ComponentLink2Description: Datasheet; ComponentLink2URL: http://www.ti.com/general/docs/lit/getliterature.tsp?genericPartNumber=PTMA401120&fileType=pdf; ComponentLink3Description: Package Specification; ComponentLink3URL: http://www-s.ti.com/sc/psheets/mpds233b/mpds233b.pdf; ComponentLink4Description: URL Link1; ComponentLink4URL: Samples URL:http://www.ti.com/product/ptma401120#samples
footprint TI-EET6_V (Module, 6-Leads, Body 27.94x24.38mm)
pins: 1 VI+ (power) "The positive input for the module with respect to VI- When powering the module from a negative input voltage, this input is connected to the input source ground.", 2 VI- (power) "The negative input supply for the module, and the 0-V reference for the Enable/Sync inputs. When powering the module from a positive source, this input is connected to the input source return.", 3 ENABLE/SYNC (in), 4 VO+ (power) "This is the positive power output with respect to VO-. It is dc isolated from the input power pins.", 5 TRIM (in) "This pin allows the output voltage set point of the module to be increased or decreased up to +/- 10 %. Connecting a resistor between this terminal and VO+ decreases the output voltage set point. Connecting a resistor (See Datasheet)", 6 VO- (power) "This is the output power return for the VO+ bus. This terminal should be connected to the common of the load circuit."

## PTMA401120A3AST
designator U?
10 W, 36 to 75 V Input, 1500 V Isolation, DC-DC Converter, -40 to 85 degC, 6-pin Module (EET6); Manufacturer: Texas Instruments; PartNumber: PTMA401120A3AST; Eco-Plan: TBD; Iout(Max)(A): 1; SubFamily: 48V Standard Pinout Brick and 36V to 75V Input; Vin(Max)(V): 75; Vin(Min)(V): 36; Vout(Max)(V): 13.2; Vout(Min)(V): 10.8; DatasheetVersion: SLTS259B; PackageVersion: 4207368-4/C; PackageReference: EET6; PackageDescription: 6-Pin Plastic Special Shape, Body 24.38 x 27.94 mm; Supplier 1: Digi-Key; Supplier Part Number 1: PTMA401120A3AST-ND; Supplier 2: Mouser; Supplier Part Number 2: 595-PTMA401120A3AST; Regulated Outputs(#): 1; Mounting Technology: Surface Mount; ComponentLink1Description: Manufacturer URL; ComponentLink1URL: http://www.ti.com/; ComponentLink2Description: Datasheet; ComponentLink2URL: http://www.ti.com/general/docs/lit/getliterature.tsp?genericPartNumber=PTMA401120&fileType=pdf; ComponentLink3Description: Package Specification; ComponentLink3URL: http://www-s.ti.com/sc/psheets/mpds233b/mpds233b.pdf; ComponentLink4Description: URL Link1; ComponentLink4URL: Samples URL:http://www.ti.com/product/ptma401120#samples
footprint TI-EET6_V (Module, 6-Leads, Body 27.94x24.38mm)
pins: 1 VI+ (power) "The positive input for the module with respect to VI- When powering the module from a negative input voltage, this input is connected to the input source ground.", 2 VI- (power) "The negative input supply for the module, and the 0-V reference for the Enable/Sync inputs. When powering the module from a positive source, this input is connected to the input source return.", 3 ENABLE/SYNC (in), 4 VO+ (power) "This is the positive power output with respect to VO-. It is dc isolated from the input power pins.", 5 TRIM (in) "This pin allows the output voltage set point of the module to be increased or decreased up to +/- 10 %. Connecting a resistor between this terminal and VO+ decreases the output voltage set point. Connecting a resistor (See Datasheet)", 6 VO- (power) "This is the output power return for the VO+ bus. This terminal should be connected to the common of the load circuit."

## PTMA401120A3AZ
designator U?
10 W, 36 to 75 V Input, 1500 V Isolation, DC-DC Converter, -40 to 85 degC, 6-pin Module (BET6), Pb-Free (RoHS); Manufacturer: Texas Instruments; PartNumber: PTMA401120A3AZ; Iout(Max)(A): 1; SubFamily: 48V Standard Pinout Brick and 36V to 75V Input; Vin(Max)(V): 75; Vin(Min)(V): 36; Vout(Max)(V): 13.2; Vout(Min)(V): 10.8; DatasheetVersion: SLTS259B; PackageVersion: 4207711-4/B; PackageReference: BET6; PackageDescription: 6-Pin Plastic Special Shape, Body 24.38 x 27.94 mm; Supplier 1: Digi-Key; Supplier Part Number 1: 296-21467-ND; Supplier 2: Newark; Supplier Part Number 2: 99K4137; Supplier 3: Mouser; Supplier Part Number 3: 595-PTMA401120A3AZ; Eco-Plan: Pb-Free (RoHS); Regulated Outputs(#): 1; Mounting Technology: Surface Mount; ComponentLink1Description: Manufacturer URL; ComponentLink1URL: http://www.ti.com/; ComponentLink2Description: Datasheet; ComponentLink2URL: http://www.ti.com/general/docs/lit/getliterature.tsp?genericPartNumber=PTMA401120&fileType=pdf; ComponentLink3Description: Package Specification; ComponentLink3URL: http://www.ti.com/lit/ml/mpds256a/mpds256a.pdf; ComponentLink4Description: URL Link1; ComponentLink4URL: Samples URL:http://www.ti.com/product/ptma401120#samples
footprint TI-BET6_V (Module, 6-Leads, Body 27.94x24.38mm)
pins: 1 VI+ (power) "The positive input for the module with respect to VI- When powering the module from a negative input voltage, this input is connected to the input source ground.", 2 VI- (power) "The negative input supply for the module, and the 0-V reference for the Enable/Sync inputs. When powering the module from a positive source, this input is connected to the input source return.", 3 ENABLE/SYNC (in), 4 VO+ (power) "This is the positive power output with respect to VO-. It is dc isolated from the input power pins.", 5 TRIM (in) "This pin allows the output voltage set point of the module to be increased or decreased up to +/- 10 %. Connecting a resistor between this terminal and VO+ decreases the output voltage set point. Connecting a resistor (See Datasheet)", 6 VO- (power) "This is the output power return for the VO+ bus. This terminal should be connected to the common of the load circuit."

## PTMA401120A3AZT
designator U?
10 W, 36 to 75 V Input, 1500 V Isolation, DC-DC Converter, -40 to 85 degC, 6-pin Module (BET6); Manufacturer: Texas Instruments; PartNumber: PTMA401120A3AZT; Eco-Plan: TBD; Iout(Max)(A): 1; SubFamily: 48V Standard Pinout Brick and 36V to 75V Input; Vin(Max)(V): 75; Vin(Min)(V): 36; Vout(Max)(V): 13.2; Vout(Min)(V): 10.8; DatasheetVersion: SLTS259B; PackageVersion: 4207711-4/B; PackageReference: BET6; PackageDescription: 6-Pin Plastic Special Shape, Body 24.38 x 27.94 mm; Supplier 1: Digi-Key; Supplier Part Number 1: PTMA401120A3AZT-ND; Supplier 2: Mouser; Supplier Part Number 2: 595-PTMA401120A3AZT; Regulated Outputs(#): 1; Mounting Technology: Surface Mount; ComponentLink1Description: Manufacturer URL; ComponentLink1URL: http://www.ti.com/; ComponentLink2Description: Datasheet; ComponentLink2URL: http://www.ti.com/general/docs/lit/getliterature.tsp?genericPartNumber=PTMA401120&fileType=pdf; ComponentLink3Description: Package Specification; ComponentLink3URL: http://www.ti.com/lit/ml/mpds256a/mpds256a.pdf; ComponentLink4Description: URL Link1; ComponentLink4URL: Samples URL:http://www.ti.com/product/ptma401120#samples
footprint TI-BET6_V (Module, 6-Leads, Body 27.94x24.38mm)
pins: 1 VI+ (power) "The positive input for the module with respect to VI- When powering the module from a negative input voltage, this input is connected to the input source ground.", 2 VI- (power) "The negative input supply for the module, and the 0-V reference for the Enable/Sync inputs. When powering the module from a positive source, this input is connected to the input source return.", 3 ENABLE/SYNC (in), 4 VO+ (power) "This is the positive power output with respect to VO-. It is dc isolated from the input power pins.", 5 TRIM (in) "This pin allows the output voltage set point of the module to be increased or decreased up to +/- 10 %. Connecting a resistor between this terminal and VO+ decreases the output voltage set point. Connecting a resistor (See Datasheet)", 6 VO- (power) "This is the output power return for the VO+ bus. This terminal should be connected to the common of the load circuit."